# EAGLE library part HV5622PG-G (library HV5622PG-G)
Serial to Parallel Logic Converters 220V 32Ch Open D Out Source: Datasheet <https://componentsearchengine.com/Datasheets/1/HV5622PG-G.pdf>
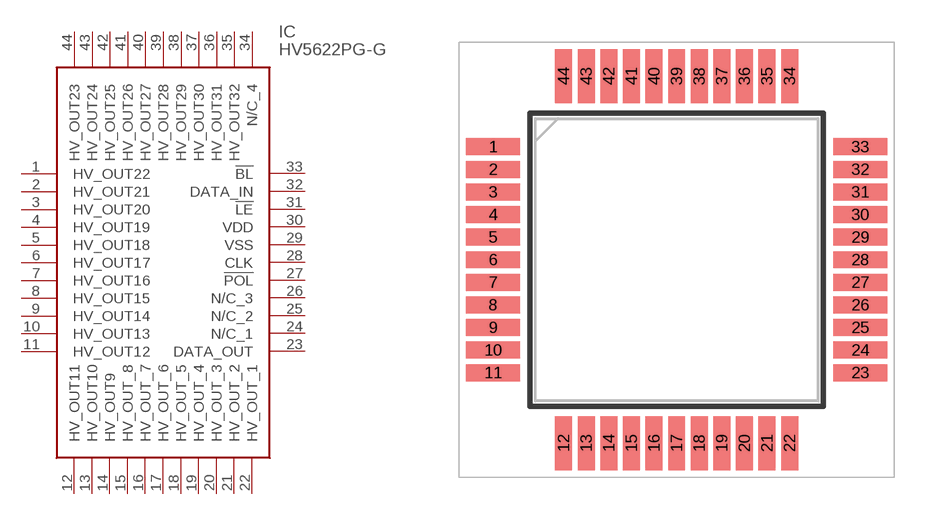
[diagram p0: symbol with the pads of QFP80P1390X1390X235-44N; footprint QFP80P1390X1390X235-44N]

Designator prefix IC

## HV5622PG-G (Description: Serial to Parallel Logic Converters 220V 32Ch Open D Out; Height: 2.35mm; Manufacturer_Name: Microchip; Manufacturer_Part_Number: HV5622PG-G; Mouser_Part_Number: 689-HV5622PG-G; Mouser_Price-Stock: https://www.mouser.co.uk/ProductDetail/Microchip-Technology/HV5622PG-G?qs=jjdktuRV%2Fgg6x1DCsLKbaw%3D%3D)  [QFP80P1390X1390X235-44N]
1  HV_OUT22
2  HV_OUT21
3  HV_OUT20
4  HV_OUT19
5  HV_OUT18
6  HV_OUT17
7  HV_OUT16
8  HV_OUT15
9  HV_OUT14
10  HV_OUT13
11  HV_OUT12
12  HV_OUT11
13  HV_OUT10
14  HV_OUT9
15  HV_OUT_8
16  HV_OUT_7
17  HV_OUT_6
18  HV_OUT_5
19  HV_OUT_4
20  HV_OUT_3
21  HV_OUT_2
22  HV_OUT_1
23  DATA_OUT
24  N/C_1
25  N/C_2
26  N/C_3
27  !POL
28  CLK
29  VSS
30  VDD
31  !LE
32  DATA_IN
33  !BL
34  N/C_4
35  HV_OUT32
36  HV_OUT31
37  HV_OUT30
38  HV_OUT29
39  HV_OUT28
40  HV_OUT27
41  HV_OUT26
42  HV_OUT25
43  HV_OUT24
44  HV_OUT23

## Footprint QFP80P1390X1390X235-44N (pad centres in mm)
HV5622PG-G
smd 1.9 x 0.6: 1 -6.5,4; 2 -6.5,3.2; 3 -6.5,2.4; 4 -6.5,1.6; 5 -6.5,0.8; 6 -6.5,0; 7 -6.5,-0.8; 8 -6.5,-1.6; 9 -6.5,-2.4; 10 -6.5,-3.2; 11 -6.5,-4; 23 6.5,-4; 24 6.5,-3.2; 25 6.5,-2.4; 26 6.5,-1.6; 27 6.5,-0.8; 28 6.5,0; 29 6.5,0.8; 30 6.5,1.6; 31 6.5,2.4; 32 6.5,3.2; 33 6.5,4
smd 0.6 x 1.9: 12 -4,-6.5; 13 -3.2,-6.5; 14 -2.4,-6.5; 15 -1.6,-6.5; 16 -0.8,-6.5; 17 0,-6.5; 18 0.8,-6.5; 19 1.6,-6.5; 20 2.4,-6.5; 21 3.2,-6.5; 22 4,-6.5; 34 4,6.5; 35 3.2,6.5; 36 2.4,6.5; 37 1.6,6.5; 38 0.8,6.5; 39 0,6.5; 40 -0.8,6.5; 41 -1.6,6.5; 42 -2.4,6.5; 43 -3.2,6.5; 44 -4,6.5